# Altium footprint library Copy of Main_Board.PcbLib: 44 footprints (part 3 of 3)
Each footprint in its own frame and in the unit in brackets; x right, y up, seen from the top. Pads: shape width x height; smd on the part's side, far side on the other; paste and mask are expansions set on the pad; w line width, h text height; cw(c..) or ccw(c..) is an arc to the next point about the centre after c.
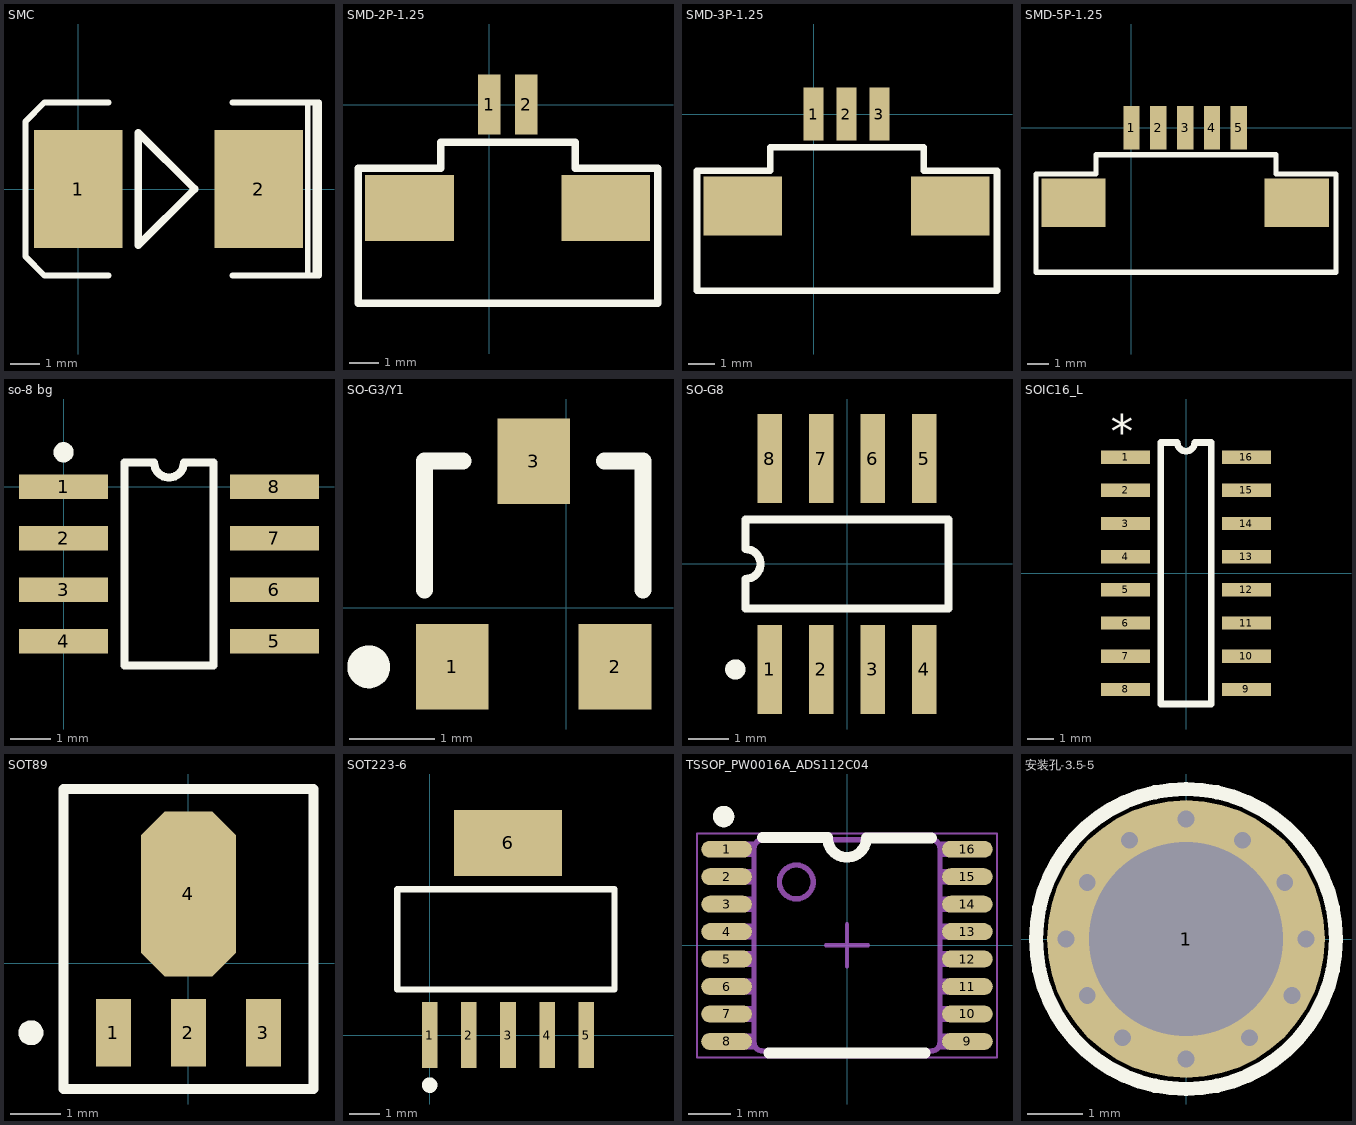
[diagram p2: the footprints below, top view; thin cyan lines are the x and y axes]

## SMC [mm]
height 1.45
pads (2):
  rect 3x4 smd: 1(0,0) 2(6.096,0)
Top Overlay:
  lines w0.2: 7.747,-2.921 7.747,2.921 ; 8.001,-2.921 8.001,2.921 ; 8.128,-2.921 8.128,2.921
  lines w0.203: 1.016,-2.921 -1.143,-2.921 -1.778,-2.286 -1.778,2.286 -1.143,2.921 1.016,2.921 ; 5.207,-2.921 8.128,-2.921 ; 5.207,2.921 8.128,2.921
  lines w0.254: 2.032,-1.905 2.032,1.905 3.937,0 2.032,-1.905

## SMD-2P-1.25 [mm]
height 1.45
pads (4):
  rect 0.762x2.032 smd: 1(0,0) 2(1.25,0)
  rect 3x2.25 smd: ""(-2.7,-3.5) ""(3.95,-3.5)
Top Overlay:
  lines w0.254: -4.445,-6.731 5.715,-6.731 5.715,-2.159 2.921,-2.159 2.921,-1.27 -1.651,-1.27 -1.651,-2.159 -4.445,-2.159 -4.445,-6.731

## SMD-3P-1.25 [mm]
height 1.45
pads (5):
  rect 0.762x2.032 smd: 1(0,0) 2(1.25,0) 3(2.5,0)
  rect 3x2.25 smd: ""(-2.7,-3.5) ""(5.2,-3.5)
Top Overlay:
  lines w0.254: -4.445,-6.731 -4.445,-2.159 -1.651,-2.159 -1.651,-1.27 4.191,-1.27 4.191,-2.159 6.985,-2.159 6.985,-6.731 -4.445,-6.731

## SMD-5P-1.25 [mm]
height 1.45
pads (7):
  rect 0.762x2.032 smd: 1(0,0) 2(1.25,0) 3(2.5,0) 4(3.75,0) 5(5,0)
  rect 3x2.25 smd: ""(-2.7,-3.5) ""(7.7,-3.5)
Top Overlay:
  lines w0.254: -4.445,-6.731 9.525,-6.731 9.525,-2.159 6.731,-2.159 6.731,-1.27 -1.651,-1.27 -1.651,-2.159 -4.445,-2.159 -4.445,-6.731

## so-8 bg [mm]
pads (8):
  rect 2.2x0.6 smd: 1(0,0) 2(0,-1.27) 3(0,-2.54) 4(0,-3.81) 5(5.2,-3.81) 6(5.2,-2.54) 7(5.2,-1.27) 8(5.2,0)
Top Overlay:
  circle w0.25: c0,0.85 r0.125
  lines w0.2: 2.233,0.595 ccw(c2.6,0.595) 2.967,0.595 ; 2.233,0.595 1.5,0.595 1.5,-4.405 3.7,-4.405 3.7,0.595 2.967,0.595

## SO-G3/Y1 [mm]
height 1.2
pads (3):
  rect 0.85x1 smd: 1(-1.331,-0.692) 2(0.569,-0.692) 3(-0.381,1.708)
Top Overlay:
  circle w0.25: c-2.306,-0.692 r0.125
  lines w0.2: -1.656,0.208 -1.656,1.708 -1.206,1.708 ; 0.444,1.708 0.894,1.708 0.894,0.208

## SO-G8 [mm]
height 1.45
pads (8):
  rect 0.6x2.2 smd: 1(-1.905,-2.6) 2(-0.635,-2.6) 3(0.635,-2.6) 4(1.905,-2.6) 5(1.905,2.6) 6(0.635,2.6) 7(-0.635,2.6) 8(-1.905,2.6)
Top Overlay:
  circle w0.25: c-2.755,-2.6 r0.125
  lines w0.2: -2.5,-1.1 2.5,-1.1 2.5,1.1 -2.5,1.1 -2.5,0.367 cw(c-2.5,0) -2.5,-0.367 -2.5,-1.1

## SOIC16_L [mil] "SN65LBC175A-EP"
pads (16):
  rect 74x20 smd: 1(-91,175) 2(-91,125) 3(-91,75) 4(-91,25) 5(-91,-25) 6(-91,-75) 7(-91,-125) 8(-91,-175) 9(91,-175) 10(91,-125) 11(91,-75) 12(91,-25) 13(91,25) 14(91,75) 15(91,125) 16(91,175)
Top Overlay:
  lines w10: -38,-197 38,-197 ; -38,-194 -38,197 -13,197 ccw(c0,197) 13,197 38,197 38,-195
  text "*" at -113.5,190 h50
3D body: height 10, standoff 0, extent 0,0 10,10

## SOT89 [mm] "SOT-89; Body 4.6 x 4.25 mm, inc. leads (LxW max)"
height 1.6
pads (4):
  rect 0.7x1.35 smd: 1(-1.5,-1.388) 2(0,-1.388) 3(1.5,-1.388)
  oct 1.9x3.3 smd: 4(0,1.388)
Top Overlay:
  circle w0.25: c-3.15,-1.388 r0.125
  lines w0.2: -2.5,-2.513 2.5,-2.513 2.5,3.487 -2.5,3.487 -2.5,-2.513

## SOT223-6 [mm]
pads (6):
  rect 0.51x2.15 smd: 1(0,0) 2(1.27,0) 3(2.54,0) 4(3.81,0) 5(5.08,0)
  rect 3.5x2.15 smd: 6(2.54,6.223)
Top Overlay:
  circle w0.25: c0,-1.625 r0.125
  lines w0.2: -1.05,1.475 -1.05,4.725 5.994,4.725 5.994,1.475 -1.05,1.475

## TSSOP_PW0016A_ADS112C04 [mm]
pads (16):
  oval 1.2x0.4 smd paste+0 mask+0: 1(-2.85,2.275) 2(-2.85,1.625) 3(-2.85,0.975) 4(-2.85,0.325) 5(-2.85,-0.325) 6(-2.85,-0.975) 7(-2.85,-1.625) 8(-2.85,-2.275) 9(2.85,-2.275) 10(2.85,-1.625) 11(2.85,-0.975) 12(2.85,-0.325) 13(2.85,0.325) 14(2.85,0.975) 15(2.85,1.625) 16(2.85,2.275)
Top Overlay:
  circle w0.254: c-2.921,3.048 r0.127
  lines w0.254: -2,2.55 -0.458,2.55 ; -1.85,-2.55 1.85,-2.55 ; -0.458,2.549 ccw(c0,2.54) 0.458,2.54 ; 0.458,2.539 2,2.539
Mechanical 13:
  drawing of 202 lines, arcs and shapes, not listed
Mechanical 15:
  lines w0.05: -3.55,-2.65 -3.55,2.65 3.55,2.65 3.55,-2.65 -3.55,-2.65
  lines w0.1: -0.5,0 0.5,0 ; 0,-0.5 0,0.5
3D body: height 0.25, standoff 0, extent 0,0 0.254,0.254

## 安装孔-3.5-5 [mm]
pads (1):
  round 5 hole 3.5: 1(0,0)
via 0,2.159 diameter 0.635 hole 0.305
via -2.159,0 diameter 0.635 hole 0.305
via 0,-2.159 diameter 0.635 hole 0.305
via 2.159,0 diameter 0.635 hole 0.305
via -1.778,1.016 diameter 0.635 hole 0.305
via -1.016,1.778 diameter 0.635 hole 0.305
via 1.016,1.778 diameter 0.635 hole 0.305
via 1.778,1.016 diameter 0.635 hole 0.305
via 1.905,-1.016 diameter 0.635 hole 0.305
via 1.143,-1.778 diameter 0.635 hole 0.305
via -1.143,-1.778 diameter 0.635 hole 0.305
via -1.778,-1.016 diameter 0.635 hole 0.305
Top Overlay:
  circle w0.254: c0,0 r2.7